# EAGLE library part 0862-1J1T-43 (library NewSDR)
Bel Fuse 10/100/1000 RJ45/Dual USB Combo With Magnetics
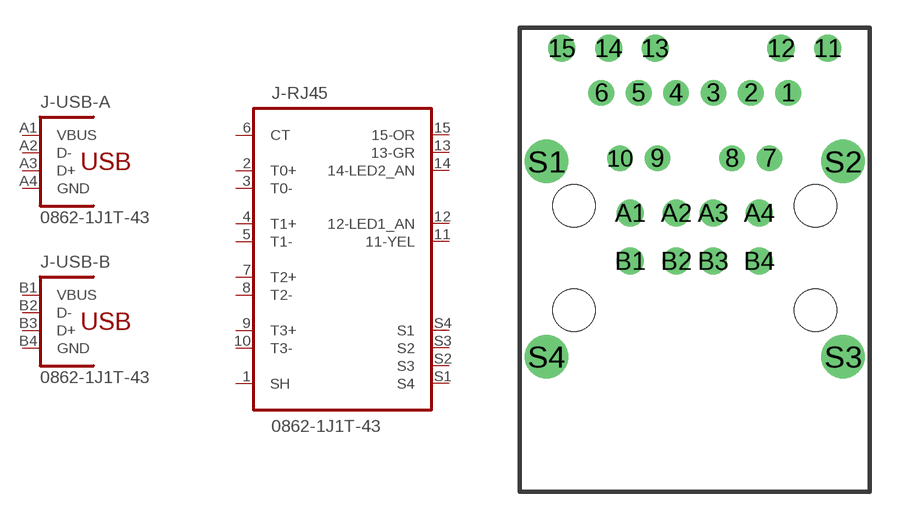
[diagram p165: symbol with the pads of 0862-1J1T-43; footprint 0862-1J1T-43]

Designator prefix J; gates -RJ45=0862-1J1T-43 -USB-A=USB-4 -USB-B=USB-4

## 0862-1J1T-43  [0862-1J1T-43]
1  -RJ45:SH  pas
2  -RJ45:T0+  pas
3  -RJ45:T0-  pas
4  -RJ45:T1+  pas
5  -RJ45:T1-  pas
6  -RJ45:CT  pas
7  -RJ45:T2+  pas
8  -RJ45:T2-  pas
9  -RJ45:T3+  pas
10  -RJ45:T3-  pas
11  -RJ45:11-YEL  pas
12  -RJ45:12-LED1_AN  pas
13  -RJ45:13-GR  pas
14  -RJ45:14-LED2_AN  pas
15  -RJ45:15-OR  pas
A1  -USB-A:VBUS  pas
A2  -USB-A:D-  pas
A3  -USB-A:D+  pas
A4  -USB-A:GND  pas
B1  -USB-B:VBUS  pas
B2  -USB-B:D-  pas
B3  -USB-B:D+  pas
B4  -USB-B:GND  pas
S1  -RJ45:S4  pas
S2  -RJ45:S3  pas
S3  -RJ45:S2  pas
S4  -RJ45:S1  pas

## Footprint 0862-1J1T-43 (pad centres in mm)
Bel Fuse 10/100/1000 RJ45/Dual USB Combo With Magnetics
drill 0.889: 1 5.08,14.351; 2 3.048,14.351; 3 1.016,14.351; 4 -1.016,14.351; 5 -3.048,14.351; 6 -5.08,14.351; 7 4.064,10.795; 8 2.032,10.795; 9 -2.032,10.795; 10 -4.064,10.795
drill 0.965: 11 7.226,16.789; 12 4.686,16.789; 13 -2.159,16.789; 14 -4.686,16.789; 15 -7.226,16.789; A1 -3.505,7.823; A2 -1.003,7.823; A3 1.003,7.823; A4 3.505,7.823; B1 -3.505,5.207; B2 -1.003,5.207; B3 1.003,5.207; B4 3.505,5.207
drill 1.575: S1 -8.065,10.617; S2 8.065,10.617; S3 8.065,0; S4 -8.065,0
hole 2.311 at 6.566,2.515
hole 2.311 at -6.566,2.515
hole 2.311 at -6.566,8.204
hole 2.311 at 6.566,8.204